# Altium footprint library TNBZLY.PcbLib: 48 footprints (part 2 of 3)
Each footprint in its own frame and in the unit in brackets; x right, y up, seen from the top. Pads: shape width x height; smd on the part's side, far side on the other; paste and mask are expansions set on the pad; w line width, h text height; cw(c..) or ccw(c..) is an arc to the next point about the centre after c.
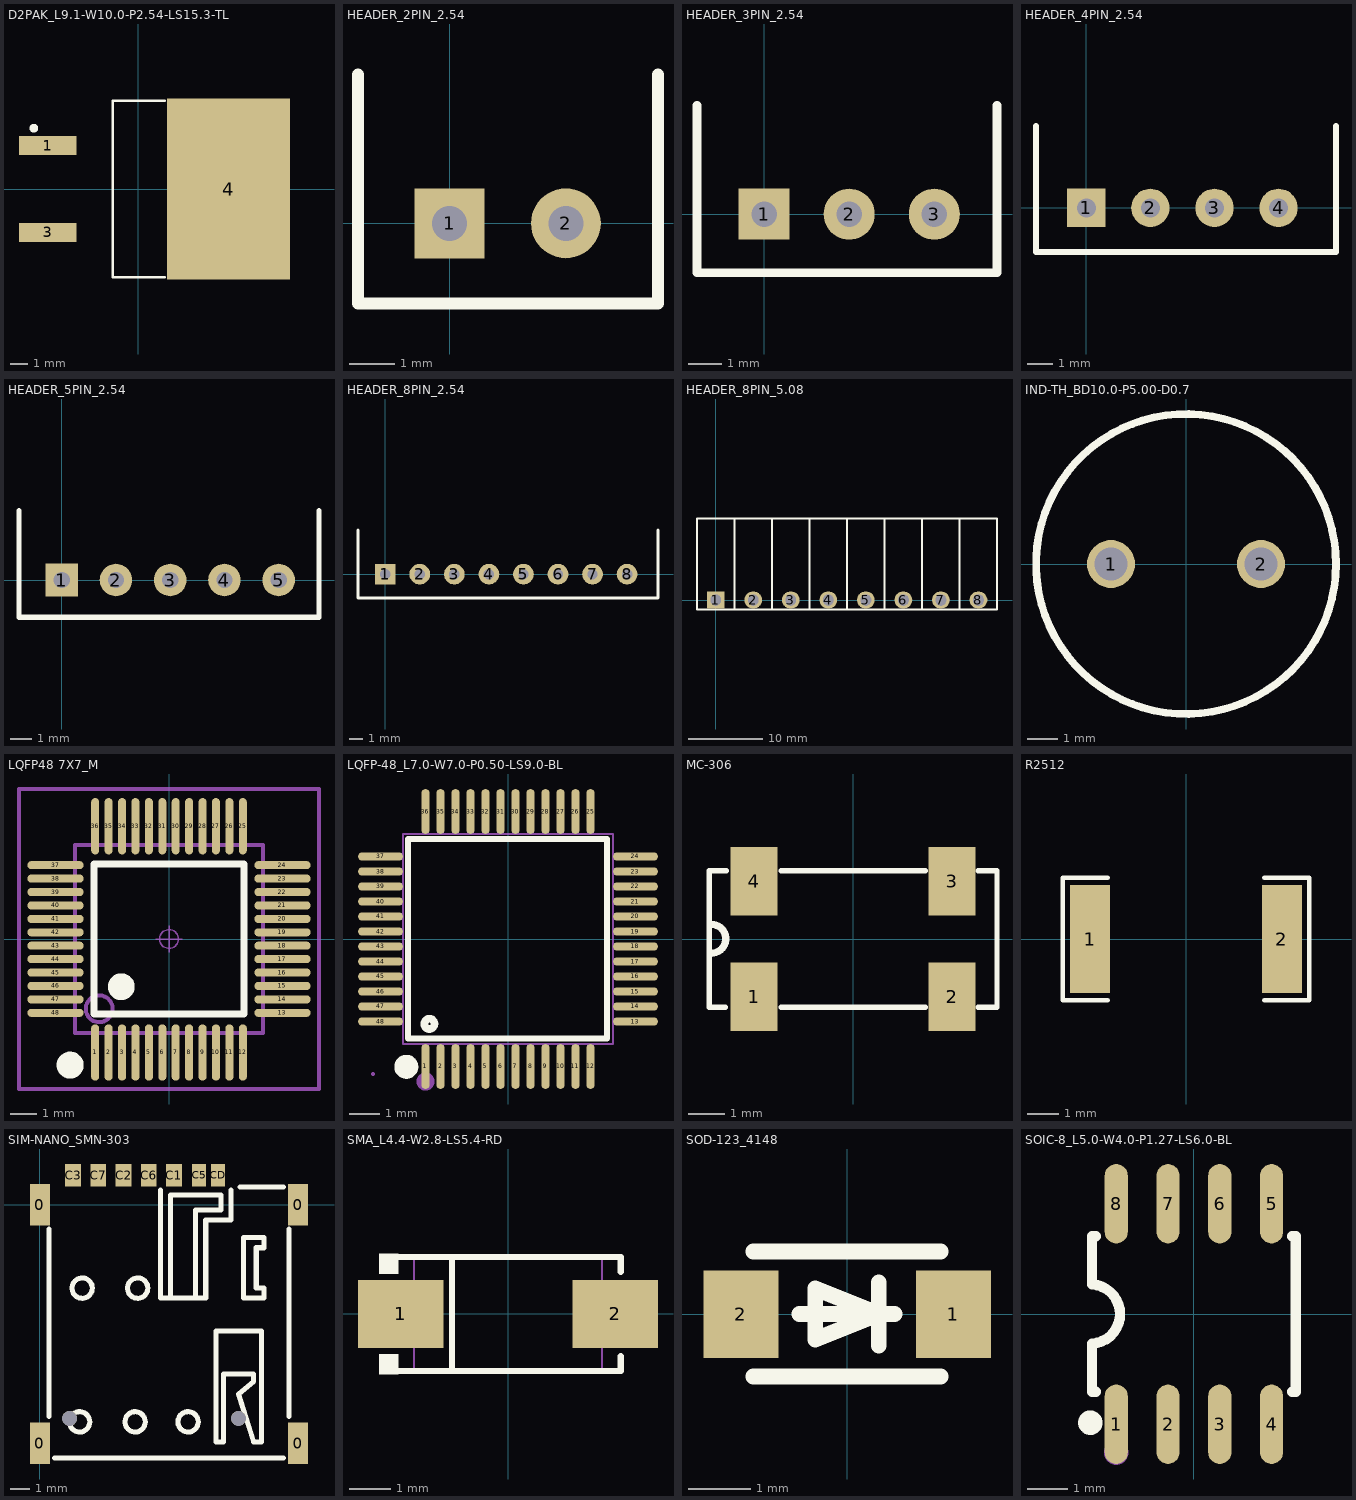
[diagram p1: the footprints below, top view; thin cyan lines are the x and y axes]

## D2PAK_L9.1-W10.0-P2.54-LS15.3-TL [mil] "IRF4905 PMOS"
pads (3):
  rect 132.23x44.65 smd: 1(-208.1,100) 3(-208.1,-100)
  rect 282.7x416 smd: 4(208.1,0)
Top Overlay:
  circle w10: c-240,140 r5
  lines w6: 60.75,-203 -58.3,-203 -58.3,203 60.75,203
Mechanical 15:
  circle w11.81: c-226.44,98.54 r5.91

## HEADER_2PIN_2.54 [mil]
pads (2):
  rect 60x60 hole 30: 1(0,0)
  round 60 hole 30: 2(100,0)
Top Overlay:
  lines w10: -78.74,127.95 -78.74,-68.9 179.13,-68.9 179.13,127.95

## HEADER_3PIN_2.54 [mil]
pads (3):
  rect 60x60 hole 30: 1(0,0)
  round 60 hole 30: 2(100,0) 3(200,0)
Top Overlay:
  lines w10: -78.74,127.95 -78.74,-68.9 273.62,-68.9 273.62,127.95

## HEADER_4PIN_2.54 [mil]
pads (4):
  rect 60x60 hole 30: 1(0,0)
  round 60 hole 30: 2(100,0) 3(200,0) 4(300,0)
Top Overlay:
  lines w10: -78.74,127.95 -78.74,-68.9 389.76,-68.9 389.76,127.95

## HEADER_5PIN_2.54 [mil]
pads (5):
  rect 60x60 hole 30: 1(0,0)
  round 60 hole 30: 2(100,0) 3(200,0) 4(300,0) 5(400,0)
Top Overlay:
  lines w10: -78.74,127.95 -78.74,-68.9 474.41,-68.9 474.41,127.95

## HEADER_8PIN_2.54 [mil]
pads (8):
  rect 60x60 hole 30: 1(0,0)
  round 60 hole 30: 2(100,0) 3(200,0) 4(300,0) 5(400,0) 6(500,0) 7(600,0) 8(700,0)
Top Overlay:
  lines w10: -78.74,127.95 -78.74,-68.9 789.37,-68.9 789.37,127.95

## HEADER_8PIN_5.08 [mm] "5.08MM间距接线端子"
pads (8):
  rect 2.4x2.3 hole 1.5 slot 1.4 at 0 deg: 1(0,0)
  oval 2.4x2.3 hole 1.5 slot 1.4 at 0 deg: 2(5.08,0) 3(10.16,0) 4(15.24,0) 5(20.32,0) 6(25.4,0) 7(30.48,0) 8(35.56,0)
Top Overlay:
  lines w0.254: 2.54,-1.3 2.54,11.049 ; 2.54,-1.3 7.62,-1.3 7.62,11.049 2.54,11.049 ; 2.54,-1.3 -2.032,-1.3 -2.54,-1.3 -2.54,11.049 2.54,11.049 ; 12.69,-1.3 8.118,-1.3 7.61,-1.3 7.61,11.049 12.69,11.049 ; 12.69,-1.3 17.77,-1.3 17.77,11.049 12.69,11.049 ; 12.69,-1.3 12.69,11.049 ; 22.84,-1.3 18.268,-1.3 17.76,-1.3 17.76,11.049 22.84,11.049 ; 22.84,-1.3 27.92,-1.3 27.92,11.049 22.84,11.049 ; 22.84,-1.3 22.84,11.049 ; 32.99,-1.3 28.418,-1.3 27.91,-1.3 27.91,11.049 32.99,11.049 ; 32.99,-1.3 38.07,-1.3 38.07,11.049 32.99,11.049 ; 32.99,-1.3 32.99,11.049

## IND-TH_BD10.0-P5.00-D0.7 [mm] "100uh 电感"
pads (2):
  round 1.6 hole 1.1: 1(-2.5,0) 2(2.5,0)
Top Overlay:
  circle w0.254: c0,0 r5

## LQFP48 7X7_M [mm] "48脚，体宽7x7mm，脚距0.5mm      淘宝ID:黄晶宝石"
height 1.6
pads (48):
  oval 0.3x2.1 smd: 1(-2.75,-4.227) 2(-2.25,-4.227) 3(-1.75,-4.227) 4(-1.25,-4.227) 5(-0.75,-4.227) 6(-0.25,-4.227) 7(0.25,-4.227) 8(0.75,-4.227) 9(1.25,-4.227) 10(1.75,-4.227) 11(2.25,-4.227) 12(2.75,-4.227) 25(2.75,4.202) 26(2.25,4.202) 27(1.75,4.202) 28(1.25,4.202) 29(0.75,4.202) 30(0.25,4.202) 31(-0.25,4.202) 32(-0.75,4.202) 33(-1.25,4.202) 34(-1.75,4.202) 35(-2.25,4.202) 36(-2.75,4.202)
  oval 2.1x0.3 smd: 13(4.227,-2.75) 14(4.227,-2.25) 15(4.227,-1.75) 16(4.227,-1.25) 17(4.227,-0.75) 18(4.227,-0.25) 19(4.227,0.25) 20(4.227,0.75) 21(4.227,1.25) 22(4.227,1.75) 23(4.227,2.25) 24(4.227,2.75) 37(-4.227,2.75) 38(-4.227,2.25) 39(-4.227,1.75) 40(-4.227,1.25) 41(-4.227,0.75) 42(-4.227,0.25) 43(-4.227,-0.25) 44(-4.227,-0.75) 45(-4.227,-1.25) 46(-4.227,-1.75) 47(-4.227,-2.25) 48(-4.227,-2.75)
Top Overlay:
  circle w0.5: c-1.778,-1.778 r0.25
  circle w0.508: c-3.683,-4.699 r0.25
  lines w0.254: -2.794,-2.794 2.794,-2.794 2.794,2.794 -2.794,2.794 -2.794,-2.794
Mechanical 13:
  circle w0.15: c-2.6,-2.6 r0.5
  lines w0.15: -3.5,-3.5 -3.5,3.5 3.5,3.5 3.5,-3.5 -3.5,-3.5
Mechanical 15:
  circle w0.05: c0,0 r0.35
  lines w0.05: -0.5,0 0.5,0 ; 0,-0.5 0,0.5
  lines w0.15: -5.588,-5.588 -5.588,5.588 5.588,5.588 5.588,-5.588 -5.588,-5.588
3D body "LQFP48-7x7.STEP": height 1.45, standoff 0, extent -4.503,-4.503 4.503,4.503

## LQFP-48_L7.0-W7.0-P0.50-LS9.0-BL [mm]
pads (48):
  oval 0.27x1.5 smd mask+0.05: 1(-2.75,-4.25) 2(-2.25,-4.25) 3(-1.75,-4.25) 4(-1.25,-4.25) 5(-0.75,-4.25) 6(-0.25,-4.25) 7(0.25,-4.25) 8(0.75,-4.25) 9(1.25,-4.25) 10(1.75,-4.25) 11(2.25,-4.25) 12(2.75,-4.25) 25(2.75,4.25) 26(2.25,4.25) 27(1.75,4.25) 28(1.25,4.25) 29(0.75,4.25) 30(0.25,4.25) 31(-0.25,4.25) 32(-0.75,4.25) 33(-1.25,4.25) 34(-1.75,4.25) 35(-2.25,4.25) 36(-2.75,4.25)
  oval 1.5x0.27 smd mask+0.05: 13(4.25,-2.75) 14(4.25,-2.25) 15(4.25,-1.75) 16(4.25,-1.25) 17(4.25,-0.75) 18(4.25,-0.25) 19(4.25,0.25) 20(4.25,0.75) 21(4.25,1.25) 22(4.25,1.75) 23(4.25,2.25) 24(4.25,2.75) 37(-4.25,2.75) 38(-4.25,2.25) 39(-4.25,1.75) 40(-4.25,1.25) 41(-4.25,0.75) 42(-4.25,0.25) 43(-4.25,-0.25) 44(-4.25,-0.75) 45(-4.25,-1.25) 46(-4.25,-1.75) 47(-4.25,-2.25) 48(-4.25,-2.75)
Top Overlay:
  circle w0.254: c-2.62,-2.83 r0.17
  lines w0.2: -2.896,3.34 3.302,3.34 3.302,-3.315 -3.327,-3.315 -3.327,3.34 -2.565,3.34
  lines w0.4: -3.39,-4.06 ccw(c-3.389,-4.26) -3.387,-4.06
Mechanical 6:
  circle w0.3: c-2.75,-4.75 r0.15
Mechanical 15:
  drawing of 101 lines, arcs and shapes, not listed

## MC-306 [mm]
height 1.6
pads (4):
  rect 1.3x1.9 smd: 1(-2.75,-1.6) 2(2.75,-1.6) 3(2.75,1.6) 4(-2.75,1.6)
Top Overlay:
  lines w0.152: -3.556,-1.9 -4,-1.9 -4,1.9 -3.531,1.9 ; -2,-1.9 2,-1.9 ; -2,1.9 2,1.9 ; 3.48,-1.9 4,-1.9 4,1.9 3.48,1.9
  lines w0.2: -3.937,-0.394 ccw(c-3.937,0.006) -3.937,0.406

## R2512 [mm] "康铜丝"
pads (2):
  rect 1.283x3.456 smd: 1(-3.066,0) 2(3.066,0)
Top Overlay:
  lines w0.152: -2.501,-1.957 -3.936,-1.957 -3.936,1.957 -2.501,1.957 ; 2.501,-1.957 3.936,-1.957 3.936,1.957 2.501,1.957
Top Paste:
  region: -2.425,-1.628 -2.425,-0.688 -2.525,-0.588 -2.761,-0.588 -2.861,-0.488 -2.861,0.488 -2.761,0.588 -2.525,0.588 -2.425,0.688 -2.425,1.628 -2.525,1.728 -3.608,1.728 -3.708,1.628 -3.708,-1.628 -3.608,-1.728 -2.525,-1.728
  region: 2.425,-1.628 2.425,-0.688 2.525,-0.588 2.761,-0.588 2.861,-0.488 2.861,0.488 2.761,0.588 2.525,0.588 2.425,0.688 2.425,1.628 2.525,1.728 3.608,1.728 3.708,1.628 3.708,-1.628 3.608,-1.728 2.525,-1.728

## SIM-NANO_SMN-303 [mm]
pads (13):
  rect 1x2.1 smd: 0(0,-12) 0(0,0) 0(13,-12) 0(13,0)
  rect 0.8x1.14 smd: C1(6.75,1.48) C2(4.21,1.48) C3(1.67,1.48) C6(5.48,1.48) C7(2.94,1.48)
  rect 0.7x1.14 smd: C5(8.02,1.48) CD(8.97,1.48)
  round 0.75 hole 0.75 unplated: ""(1.5,-10.75) ""(10,-10.75)
Top Overlay:
  circle w0.254: c2.128,-4.198 r0.512
  circle w0.254: c4.922,-4.198 r0.512
  circle w0.254: c2.001,-10.929 r0.512
  circle w0.254: c4.795,-10.929 r0.512
  circle w0.254: c7.462,-10.929 r0.512
  lines w0.254: 0.458,-10.657 0.458,-1.219 ; 0.731,-12.752 12.269,-12.752 ; 6.065,0.741 6.065,-4.706 8.351,-4.706 8.351,-0.769 9.621,-0.769 ; 6.573,-4.706 6.573,0.501 9.113,0.501 9.113,-0.261 7.843,-0.261 7.843,-4.706 ; 10.069,0.898 12.269,0.898 ; 12.542,-10.657 12.542,-1.219 ; 9.621,-0.769 9.621,0.741 9.621,-0.769 ; 8.859,-11.945 8.859,-6.357 11.145,-6.357 11.145,-11.945 10.764,-11.945 10.002,-9.532 10.764,-8.897 10.764,-8.516 9.24,-8.516 9.24,-11.945 8.859,-11.945 ; 10.256,-4.706 11.272,-4.706 11.272,-4.198 10.891,-4.198 10.891,-2.166 11.272,-2.166 11.272,-1.658 10.256,-1.658 10.256,-4.706

## SMA_L4.4-W2.8-LS5.4-RD [mm]
pads (2):
  rect 2.046x1.62 smd mask+0.051: 1(-2.565,0) 2(2.565,0)
Top Overlay:
  region: -2.625,1.44 -2.625,0.962 -3.082,0.962 -3.082,1.44
  region: -2.625,-1.44 -2.625,-0.962 -3.082,-0.962 -3.082,-1.44
  lines w0.152: -2.701,-1.364 2.701,-1.364 2.701,-1.013 ; -2.701,1.364 2.701,1.364 2.701,1.013 ; -1.339,-1.364 -1.339,1.364
Mechanical 6:
  region: -2.432,-0.097 -2.432,0.097 -1.659,0.097 -1.659,-0.097
  region: 2.432,-0.097 2.432,0.097 1.659,0.097 1.659,-0.097
  region: 2.142,-0.644 2.142,0.644 1.949,0.644 1.949,-0.644
Mechanical 15:
  region: -2.74,-1.375 -2.74,-1.35 -2.775,-1.315 -2.825,-1.315 -2.86,-1.35 -2.86,-1.375 -2.86,-1.4 -2.825,-1.435 -2.775,-1.435 -2.74,-1.4 -2.74,-1.375
  region: -2.8,-0.725 -2.8,0.725 -1.65,0.725 -1.65,-0.725
  region: 2.809,0.725 2.809,-0.725 1.659,-0.725 1.659,0.725
  lines w0.051: -2.25,-1.375 -2.25,1.375 2.25,1.375 2.25,-1.375 -2.25,-1.375

## SOD-123_4148 [mm]
pads (2):
  rect 1.2x1.4 smd: 1(1.7,0) 2(-1.7,0)
Top Overlay:
  lines w0.254: -1.5,-1 1.5,-1 ; -1.5,1 1.5,1 ; -0.762,0 0.762,0 ; 0.508,-0.508 0.508,0.508 ; -0.508,-0.406 0.508,0 -0.508,0.406 -0.508,-0.406

## SOIC-8_L5.0-W4.0-P1.27-LS6.0-BL [mil] "24C64"
height 509.06
pads (8):
  oval 22.38x76.78 smd: 1(-75,-106.5) 2(-25,-106.5) 3(25,-106.5) 4(75,-106.5) 5(75,106.5) 6(25,106.5) 7(-25,106.5) 8(-75,106.5)
Top Overlay:
  circle w11.81: c-100,-105 r5.91
  lines w10: -98.43,-28.61 ccw(c-99.99,0) -98.23,28.59 ; -98.42,-28.61 -98.42,-59.05 -98.42,-75 -94.83,-75 ; -98.42,28.59 -98.42,59.05 -98.42,75 -94.83,75 ; 94.83,-75 98.42,-75 98.42,-59.05 98.42,59.05 98.42,75 94.83,75
Mechanical 15:
  circle w11.81: c-75,-133.86 r5.91